# Altium footprint library CNC_TECH_1003-004-01010.PcbLib: 1 footprints
Each footprint in its own frame and in the unit in brackets; x right, y up, seen from the top. Pads: shape width x height; smd on the part's side, far side on the other; paste and mask are expansions set on the pad; w line width, h text height; cw(c..) or ccw(c..) is an arc to the next point about the centre after c.
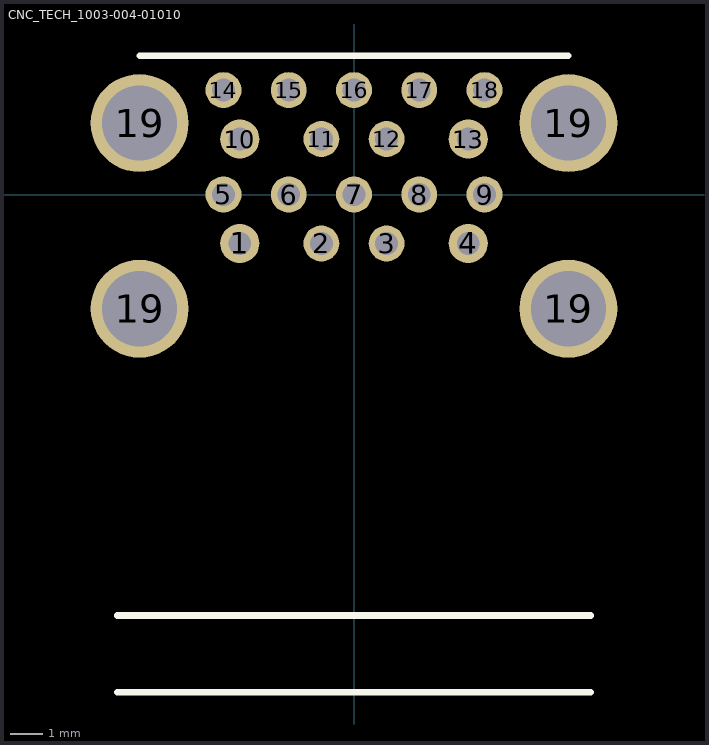
[diagram p0: the footprint, top view; thin cyan lines are the x and y axes]

## CNC_TECH_1003-004-01010 [mm] "USB-A 3.0 x2 from CNC Tech"
pads (22):
  round 1.2 hole 0.7: 1(-3.5,-1.5) 4(3.5,-1.5) 10(-3.5,1.7) 13(3.5,1.7)
  round 1.1 hole 0.7: 2(-1,-1.5) 3(1,-1.5) 5(-4,0) 6(-2,0) 7(0,0) 8(2,0) 9(4,0) 11(-1,1.7) 12(1,1.7) 14(-4,3.2) 15(-2,3.2) 16(0,3.2) 17(2,3.2) 18(4,3.2)
  round 3 hole 2.3: 19(-6.57,-3.5) 19(-6.57,2.19) 19(6.57,-3.5) 19(6.57,2.19)
Top Overlay:
  lines w0.2: -7.25,-15.25 7.25,-15.25 ; -7.25,-12.9 7.25,-12.9 ; -6.57,4.25 6.57,4.25
3D body "CNC_TECH_1003-004-01010.STEP": height 15.29, standoff -2.02, extent -7.25,-15.28 7.25,4.22